# EAGLE library part WIRES-11 (library harrison)
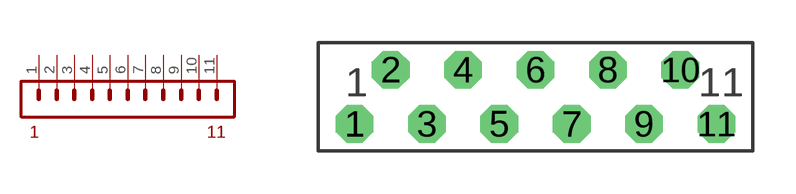
[diagram p45: symbol with the pads of WIRES-11; footprint WIRES-11]

Designator prefix -

## WIRES-11  [WIRES-11]
1  1  pas
2  2  pas
3  3  pas
4  4  pas
5  5  pas
6  6  pas
7  7  pas
8  8  pas
9  9  pas
10  10  pas
11  11  pas

## Footprint WIRES-11 (pad centres in mm)
drill 0.813 octagon: 1 -6.35,-0.635; 2 -5.08,1.27; 3 -3.81,-0.635; 4 -2.54,1.27; 5 -1.27,-0.635; 6 0,1.27; 7 1.27,-0.635; 8 2.54,1.27; 9 3.81,-0.635; 10 5.08,1.27; 11 6.35,-0.635